# EAGLE library part SHIFT_REGISTER (library mini_project_parts)
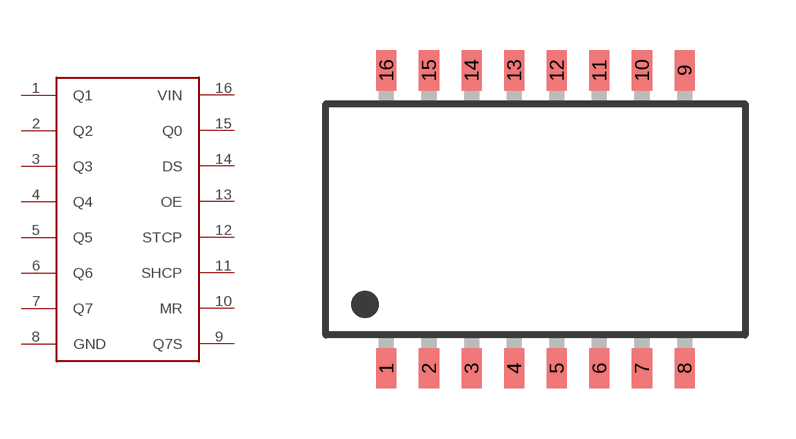
[diagram p3: symbol with the pads of N5; footprint N5]

Designator prefix -

## SHIFT_REGISTER  [N5]
1  Q1
2  Q2
3  Q3
4  Q4
5  Q5
6  Q6
7  Q7
8  GND
9  Q7S
10  MR
11  SHCP
12  STCP
13  OE
14  DS
15  Q0
16  VIN

## Footprint N5 (pad centres in mm)
smd 0.6 x 1.2: 1 -4.445,-4.445; 2 -3.175,-4.445; 3 -1.905,-4.445; 4 -0.635,-4.445; 5 0.635,-4.445; 6 1.905,-4.445; 7 3.175,-4.445; 8 4.445,-4.445; 9 4.445,4.445; 10 3.175,4.445; 11 1.905,4.445; 12 0.635,4.445; 13 -0.635,4.445; 14 -1.905,4.445; 15 -3.175,4.445; 16 -4.445,4.445